# Altium footprint library con-mini-fit.PcbLib: 51 footprints (part 4 of 4)
Each footprint in its own frame and in the unit in brackets; x right, y up, seen from the top. Pads: shape width x height; smd on the part's side, far side on the other; paste and mask are expansions set on the pad; w line width, h text height; cw(c..) or ccw(c..) is an arc to the next point about the centre after c.
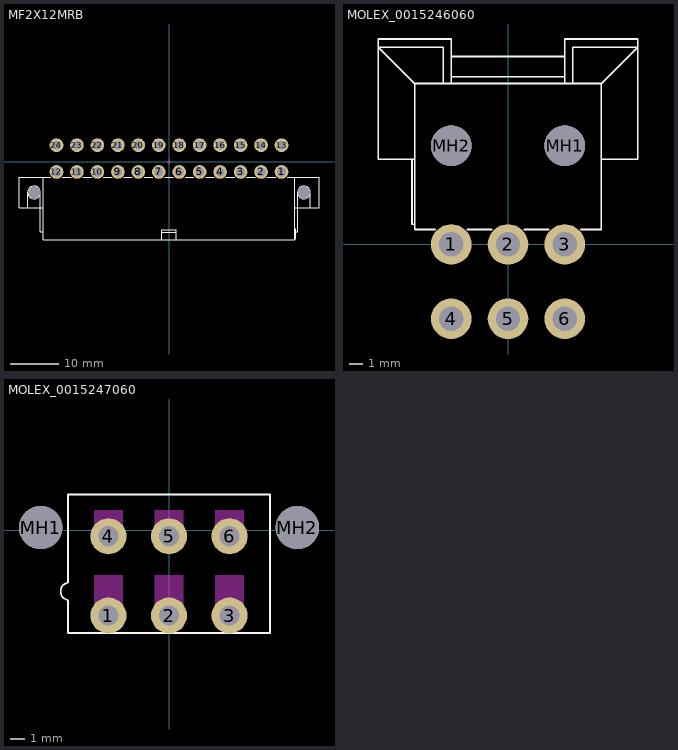
[diagram p3: the footprints below, top view; thin cyan lines are the x and y axes]

## MF2X12MRB [mm]
pads (26):
  round 2.8 / inner round 1.524 / far side round 2.8 hole 1.8: 1(23.1,-2.1) 2(18.9,-2.1) 3(14.7,-2.1) 4(10.5,-2.1) 5(6.3,-2.1) 6(2.1,-2.1) 7(-2.1,-2.1) 8(-6.3,-2.1) 9(-10.5,-2.1) 10(-14.7,-2.1) 11(-18.9,-2.1) 12(-23.1,-2.1) 13(23.1,3.4) 14(18.9,3.4) 15(14.7,3.4) 16(10.5,3.4) 17(6.3,3.4) 18(2.1,3.4) 19(-2.1,3.4) 20(-6.3,3.4) 21(-10.5,3.4) 22(-14.7,3.4) 23(-18.9,3.4) 24(-23.1,3.4)
  round 2.4 hole 2.4 unplated: MH1(27.7,-6.3) MH2(-27.7,-6.3)
Top Overlay:
  circle w0.1: c27.7,-6.3 r1.3
  circle w0.1: c-27.7,-6.3 r1.3
  lines w0.1: -29,-9.4 -29,-6.3 ; -26.4,-6.3 -26.4,-9.4 -26.4,-14.4 -25.8,-14.4 ; 26,-14.4 26.4,-14.4 26.4,-9.4 26.4,-6.3 ; 29,-9.4 29,-6.3
  lines w0.127: -24.3,-3.2 -25.8,-3.2 ; -21.9,-3.2 -20.1,-3.2 ; -17.7,-3.2 -15.9,-3.2 ; -13.5,-3.2 -11.7,-3.2 ; -9.3,-3.2 -7.5,-3.2 ; -5.1,-3.2 -3.3,-3.2 ; -0.9,-3.2 0.9,-3.2 ; 3.3,-3.2 5.1,-3.2 ; 7.5,-3.2 9.3,-3.2 ; 11.7,-3.2 13.5,-3.2 ; 15.9,-3.2 17.7,-3.2 ; 20.1,-3.2 21.9,-3.2 ; 24.3,-3.2 25.8,-3.2 ; -25.8,-9.4 -26.4,-9.4 -29,-9.4 -30.8,-9.4 -30.8,-3.2 -25.8,-3.2 ; -25.8,-9.4 -25.8,-14.4 -25.8,-16 -1.5,-16 ; -25.8,-9.4 -25.8,-3.2 ; -1.5,-16 -1.5,-14.5 ; -1.5,-16 1.5,-16 ; -1.5,-14.5 -1.5,-14 1.5,-14 1.5,-14.5 ; -1.5,-14.5 1.5,-14.5 ; 1.5,-16 1.5,-14.5 ; 1.5,-16 25.8,-16 25.8,-15.8 ; 25.8,-15.8 26,-15.8 26,-14.4 26,-13.8 25.8,-13.8 ; 25.8,-15.8 25.8,-13.8 ; 25.8,-13.8 25.8,-9.4 ; 25.8,-9.4 26.4,-9.4 29,-9.4 30.8,-9.4 30.8,-3.2 25.8,-3.2 ; 25.8,-9.4 25.8,-5.4 25.8,-3.6 25.8,-3.2
Top Courtyard:
  lines w0.1: -0.5,0 0.5,0 ; 0,-0.5 0,0.5

## MOLEX_0015246060 [mm]
pads (8):
  round 3 / inner round 1.524 / far side round 3 hole 1.8: 1(-4.2,0) 2(0,0) 3(4.2,0) 4(-4.2,-5.5) 5(0,-5.5) 6(4.2,-5.5)
  round 3 hole 3 unplated: MH1(4.2,7.3) MH2(-4.2,7.3)
Top Overlay:
  lines w0.127: -5.4,1.1 -6.9,1.1 -6.9,1.5 ; -3,1.1 -1.2,1.1 ; -1.8,11.9 -4.2,11.9 -4.2,12.4 ; -0.3,11.9 0.3,11.9 ; 1.2,1.1 3,1.1 ; 1.8,11.9 4.2,11.9 4.2,12.4 ; 4.9,11.9 5.4,11.9 ; 5.4,1.1 6.9,1.1 6.9,6.3 ; -9.6,14.6 -9.6,15.2 -4.2,15.2 -4.2,13.9 ; -9.6,14.6 -9.6,6.3 -7.1,6.3 ; -9.6,14.6 -4.8,14.6 -4.8,11.9 ; -9.6,14.6 -6.9,11.9 ; -7.1,6.3 -7.1,1.5 -6.9,1.5 ; -7.1,6.3 -6.9,6.3 ; -6.9,1.5 -6.9,6.3 ; -6.9,6.3 -6.9,11.9 ; -6.9,11.9 -4.8,11.9 ; -4.8,11.9 4.8,11.9 ; -4.2,12.4 -4.2,13.9 ; -4.2,12.4 4.2,12.4 ; -4.2,13.9 4.2,13.9 ; 4.2,12.4 4.2,13.9 ; 4.2,13.9 4.2,15.2 9.6,15.2 9.6,14.6 ; 4.8,11.9 6.9,11.9 ; 4.8,11.9 4.8,14.6 9.6,14.6 ; 6.9,6.3 6.9,11.9 ; 6.9,6.3 9.6,6.3 9.6,14.6 ; 6.9,11.9 9.6,14.6
Top Courtyard:
  lines w0.1: -0.5,0 0.5,0 ; 0,-0.5 0,0.5

## MOLEX_0015247060 [mm]
pads (8):
  round 2.5 / inner round 1.524 / far side round 2.5 hole 1.4: 1(-4.2,-5.9) 2(0,-5.9) 3(4.2,-5.9) 4(-4.2,-0.4) 5(0,-0.4) 6(4.2,-0.4)
  round 3 hole 3 unplated: MH1(-8.9,0.2) MH2(8.9,0.2)
Top Overlay:
  lines w0.127: -7.5,-4.291 ccw(c-7,-4.291) -7.224,-4.738 -7,-4.85 -7,-7.1 7,-7.1 7,2.5 -7,2.5 -7,-3.6 -7.224,-3.712 ccw(c-7,-4.159) -7.5,-4.159 -7.5,-4.291
Keep-Out Layer:
  region: 3.2,-5.6 3.2,-3.1 5.2,-3.1 5.2,-5.6
  region: -1,-5.6 -1,-3.1 1,-3.1 1,-5.6
  region: -5.2,-5.6 -5.2,-3.1 -3.2,-3.1 -3.2,-5.6
  region: -5.2,-0.6 -5.2,1.4 -3.2,1.4 -3.2,-0.6
  region: -1,-0.6 -1,1.4 1,1.4 1,-0.6
  region: 3.2,-0.6 3.2,1.4 5.2,1.4 5.2,-0.6
Top Courtyard:
  lines w0.1: -0.5,0 0.5,0 ; 0,-0.5 0,0.5